# Altium schematic symbol library my_AP_lib_sch.SchLib: 107 symbols
Pins are listed as number, name and electrical type; pins without a type are passive.

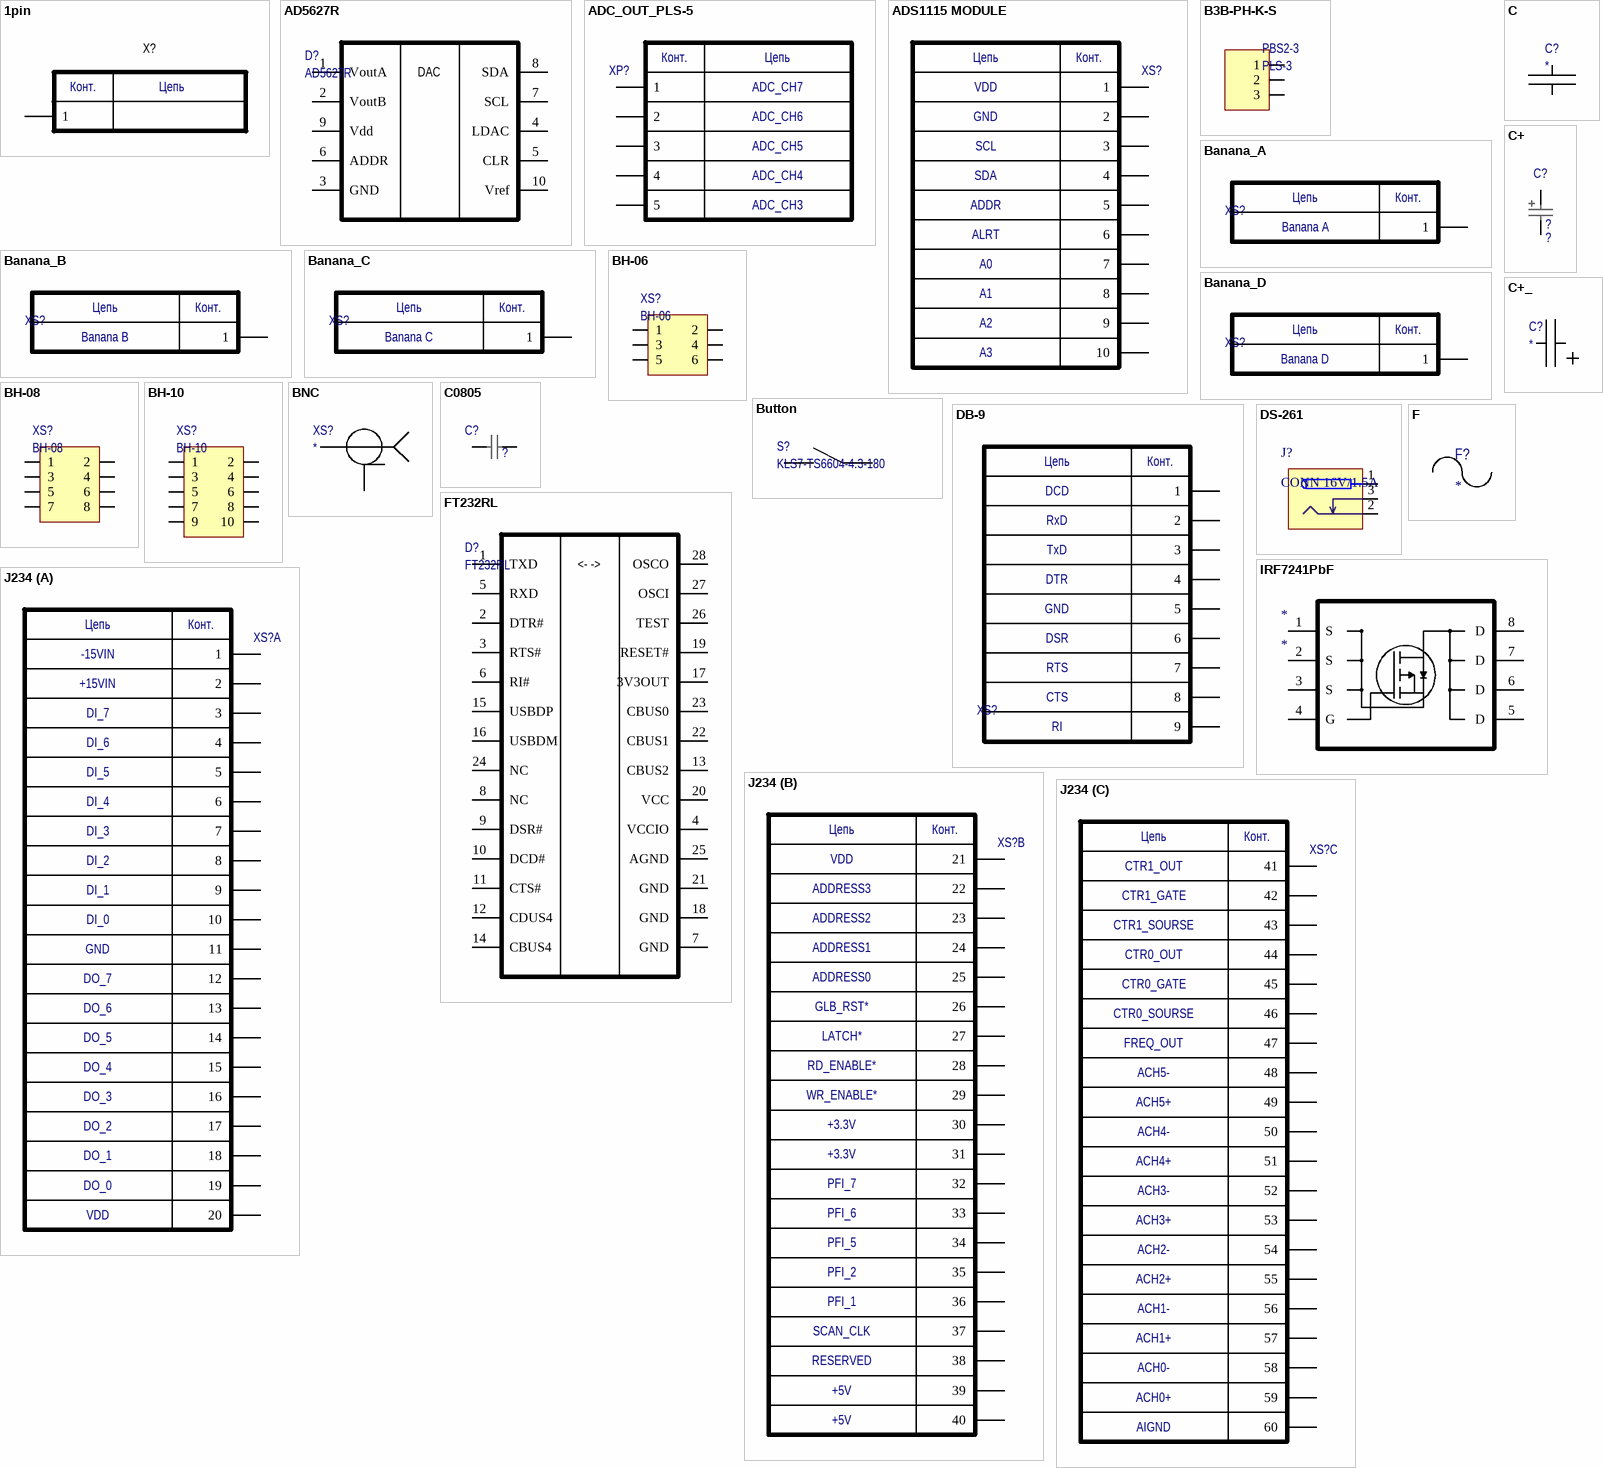
[diagram p0: symbols 1pin to J234]

## 1pin
designator X?  (value not drawn)
Manufacturer: *; PartNumber: *
footprint Test_point
pins: 1
text: Конт.; Цепь

## AD5627R
designator D?
Manufacturer: Analog Devices; PartNumber: AD5627R
footprint MSOP-10
pins: 1 VoutA, 2 VoutB, 3 GND, 4 LDAC, 5 CLR, 6 ADDR, 7 SCL, 8 SDA, 9 Vdd, 10 Vref
text: DAC

## ADC_OUT_PLS-5
designator XP?  (value not drawn)
footprint PLS-5
pins: 1, 2, 3, 4, 5
text: Конт.; Цепь; ADC_CH7; ADC_CH6; ADC_CH5; ADC_CH4; ADC_CH3

## ADS1115 MODULE
designator XS?  (value not drawn)
footprint PBS-10
pins: 1, 2, 3, 4, 5, 6, 7, 8, 9, 10
text: Цепь; Конт.; VDD; GND; SCL; SDA; ADDR; ALRT; A0; A1; A2; A3

## B3B-PH-K-S
designator PBS2-3, comment PLS-3
footprint PBS2-3
pins: 1, 2, 3

## Banana_A
designator XS?, comment 571-0500  (value not drawn)
PartNumber: 571-0500
footprint BANANA (571-0100) (Deltron)
pins: 1
text: Цепь; Конт.; Banana A

## Banana_B
designator XS?, comment 571-0100  (value not drawn)
PartNumber: 571-0100
footprint BANANA (571-0100) (Deltron)
pins: 1
text: Цепь; Конт.; Banana B

## Banana_C
designator XS?, comment 571-0500  (value not drawn)
PartNumber: 571-0500
footprint BANANA (571-0100) (Deltron)
pins: 1
text: Цепь; Конт.; Banana C

## Banana_D
designator XS?, comment 571-0100  (value not drawn)
PartNumber: 571-0100
footprint BANANA (571-0100) (Deltron)
pins: 1
text: Цепь; Конт.; Banana D

## BH-06
designator XS?
footprint BH-06
pins: 1, 2, 3, 4, 5, 6

## BH-08
designator XS?
footprint BH-08
pins: 1, 2, 3, 4, 5, 6, 7, 8

## BH-10
designator XS?
footprint BH-10
pins: 1, 2, 3, 4, 5, 6, 7, 8, 9, 10

## BNC
designator XS?
footprint PCB_BNC
pins: 1 IN, 2 GND

## Button
designator S?, comment KLS7-TS6604-4.3-180
footprint KLS7-TS6604-4.3-180
pins: 1, 2

## C
designator C?
Tolerance: %; Voltage: B; Case: *; Dielectric: *; Mount: *; PartNumber: *; Value: ?
footprint C0402
footprint C0603
footprint C0805 (Chip Capacitor, 2-Leads, Body 2,00x1,25mm, IPC Medium Density)
footprint C1206 (Chip Capacitor, 2-Leads, Body 3,20x1,60mm, IPC Medium Density)
pins: 1, 2

## C0805
designator C?  (value not drawn)
Tolerance: %; Voltage: B; Case: *; Dielectric: *; Mount: *; PartNumber: *; Value: ?
footprint C0402
footprint C0603
footprint C0805 (Chip Capacitor, 2-Leads, Body 2,00x1,25mm, IPC Medium Density)
footprint C1206 (Chip Capacitor, 2-Leads, Body 3,20x1,60mm, IPC Medium Density)
pins: 1, 2

## C+
designator C?  (value not drawn)
Tolerance: %; Case: *; Dielectric: *; Mount: *; PartNumber: *; Voltage: ?; Value: ?
footprint C0402
footprint C0603
footprint C1206 (Chip Capacitor, 2-Leads, Body 3,20x1,60mm, IPC Medium Density)
footprint ECAP_10x17
footprint ECAP_8x12
pins: 1, 2

## C+_
designator C?
Tolerance: %; Voltage: B; Case: *; Dielectric: *; Mount: *; PartNumber: *; Value: ?
footprint Case A
footprint CASE B
footprint CASE C
footprint Case D
footprint C_EL_12.5x20x5
pins: 1, 2

## DB-9
designator XS?  9: RI  8: CTS  7: RTS  6: DSR  5: GND  4: DTR  3: TxD  2: RxD  1: DCD  (hidden comment: *)
pins: 1, 2, 3, 4, 5, 6, 7, 8, 9
text: Цепь; Конт.

## DS-261
designator J?, comment CONN 16V/1.5A
footprint DS-261
pins: 1, 2, 3

## F
designator F?
045303.5MR
footprint FUSC6127X269N
pins: 1, 2

## FT232RL
designator D?
Manufacturer: FTDI Chip; PurtNumber: FT232RL-xxxx; Case: SSOP-28
footprint SSOP-28 (SOP, 28-Leads, Body 10,20x5,30mm, Pitch 0,65mm, IPC Medium Density)
pins: 1 TXD, 2 DTR#, 3 RTS#, 4 VCCIO, 5 RXD, 6 RI#, 7 GND, 8 NC, 9 DSR#, 10 DCD#, 11 CTS#, 12 CDUS4, 13 CBUS2, 14 CBUS4, 15 USBDP, 16 USBDM, 17 3V3OUT, 18 GND, 19 RESET#, 20 VCC, 21 GND, 22 CBUS1, 23 CBUS0, 24 NC, 25 AGND, 26 TEST, 27 OSCI, 28 OSCO
text: <- ->

## IRF7241PbF
designator *
footprint SOIC127P600X175-8N
pins: 1 S, 2 S, 3 S, 4 G, 5 D, 6 D, 7 D, 8 D

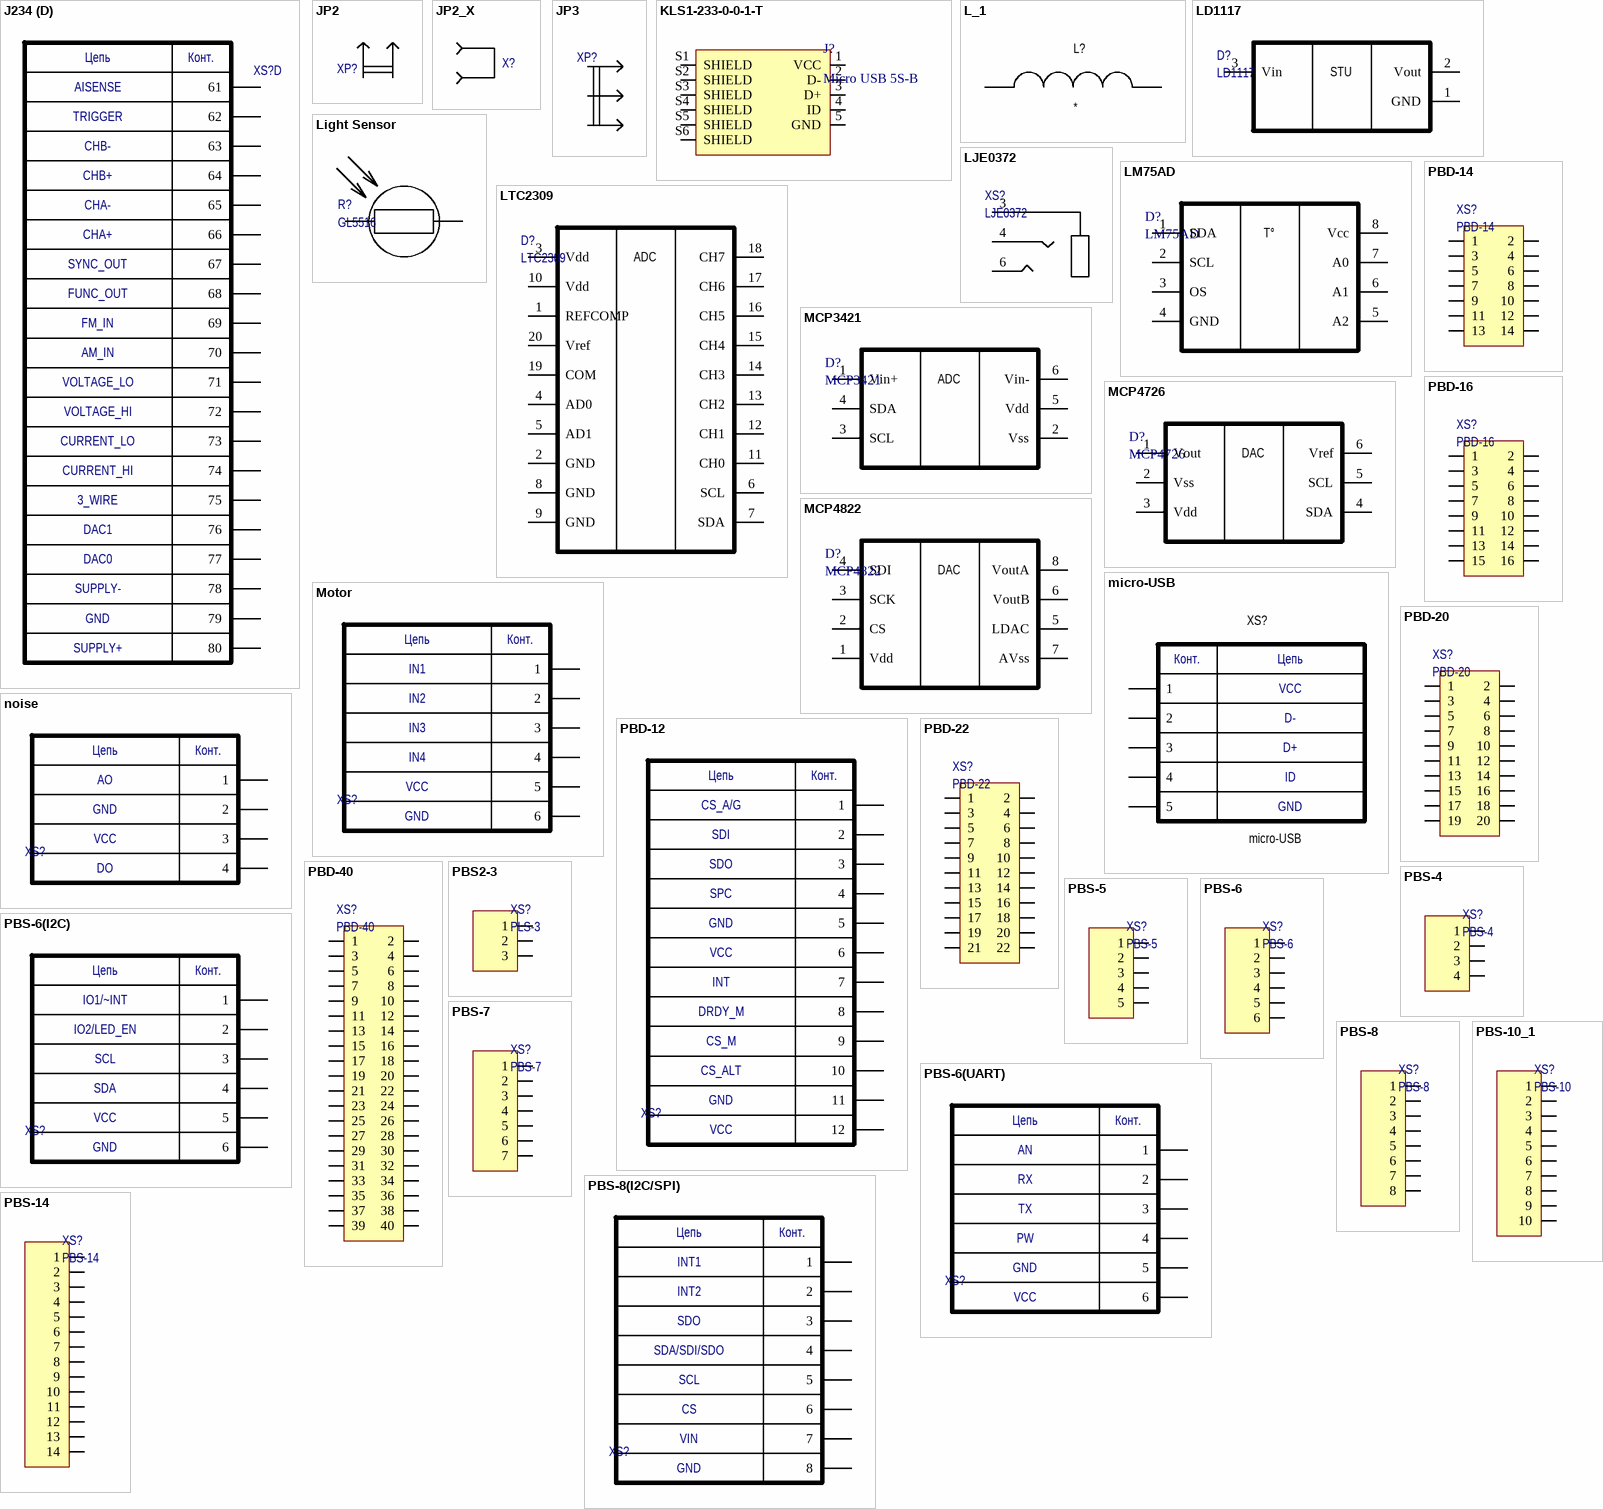
[diagram p1: symbols J234 to PBS-14]

## J234
designator XS?  (value not drawn)
footprint J234
part A pins: 1, 2, 3, 4, 5, 6, 7, 8, 9, 10, 11, 12, 13, 14, 15, 16, 17, 18, 19, 20
part B pins: 21, 22, 23, 24, 25, 26, 27, 28, 29, 30, 31, 32, 33, 34, 35, 36, 37, 38, 39, 40
part C pins: 41, 42, 43, 44, 45, 46, 47, 48, 49, 50, 51, 52, 53, 54, 55, 56, 57, 58, 59, 60
part D pins: 61, 62, 63, 64, 65, 66, 67, 68, 69, 70, 71, 72, 73, 74, 75, 76, 77, 78, 79, 80
part A text: Цепь; Конт.; -15VIN; +15VIN; DI_7; DI_6; DI_5; DI_4; DI_3; DI_2; DI_1; DI_0; GND; DO_7; DO_6; DO_5; DO_4; DO_3; DO_2; DO_1; DO_0; VDD
part B text: Цепь; Конт.; VDD; ADDRESS3; ADDRESS2; ADDRESS1; ADDRESS0; GLB_RST*; LATCH*; RD_ENABLE*; WR_ENABLE*; +3.3V; PFI_7; PFI_6; PFI_5; PFI_2; PFI_1; SCAN_CLK; RESERVED; +5V
part C text: Цепь; Конт.; CTR1_OUT; CTR1_GATE; CTR1_SOURSE; CTR0_OUT; CTR0_GATE; CTR0_SOURSE; FREQ_OUT; ACH5-; ACH5+; ACH4-; ACH4+; ACH3-; ACH3+; ACH2-; ACH2+; ACH1-; ACH1+; ACH0-; ACH0+; AIGND
part D text: Цепь; Конт.; AISENSE; TRIGGER; CHB-; CHB+; CHA-; CHA+; SYNC_OUT; FUNC_OUT; FM_IN; AM_IN; VOLTAGE_LO; VOLTAGE_HI; CURRENT_LO; CURRENT_HI; 3_WIRE; DAC1; DAC0; SUPPLY-; GND; SUPPLY+

## JP2
designator XP?, comment Замыкатель MJ-O-8KLS  (value not drawn)
Company: KLS electronic co ltd; PartNumber: MJ-O-8KLS
footprint PLS-2
pins: 1, 2

## JP2_X
designator X?  (value not drawn)

## JP3
designator XP?, comment Замыкатель MJ-O-8KLS  (value not drawn)
Company: KLS electronic co ltd; PartNumber: MJ-O-8KLS
footprint PLS-3
pins: 1, 2, 3

## KLS1-233-0-0-1-T
designator J?, comment Micro USB 5S-B
footprint KLS1-233-0-0-1-T (Micro USB 5S-B)
pins: 1 VCC, 2 D-, 3 D+, 4 ID, 5 GND, S1 SHIELD, S2 SHIELD, S3 SHIELD, S4 SHIELD, S5 SHIELD, S6 SHIELD

## L_1
designator L?
footprint INDC3225X170N (Chip Inductor, 2-Leads, Body 3.2x2.5mm, IPC Medium Density)
footprint IND_6.5x6.5_VISHAY
footprint Ind_6.5x6.5
footprint INDC_0603 (Chip Inductor, 2-Leads, Body 1,60x1,00mm, IPC Medium Density)
pins: 1, 2

## LD1117
designator D?
Manufacturer: ST Microelectronics; PartNumber: LD1117S33CTR; Case: SOT-223
footprint SOT-223
pins: 1 GND, 2 Vout, 3 Vin
text: STU

## Light Sensor
designator R?, comment GL5516
PartNumber: GL5516
footprint GL5516
pins: 1, 2

## LJE0372
designator XS?
footprint JP035-Rt3B3AB
pins: 3, 4, 6

## LM75AD
designator D?
Manufacturer: NXP; Case: SO-8; PartNumber: LM75AD
footprint SO-8 (SOP, 8-Leads, Body 4,90x3,90mm, Pitch 1,27mm, IPC Medium Density)
pins: 1 SDA, 2 SCL, 3 OS, 4 GND, 5 A2, 6 A1, 7 A0, 8 Vcc
text: T°

## LTC2309
designator D?
Manufacturer: Linear Technology; PartNumber: LTC2309
footprint SOP127P600-8N
pins: 1 REFCOMP, 2 GND, 3 Vdd, 4 AD0, 5 AD1, 6 SCL, 7 SDA, 8 GND, 9 GND, 10 Vdd, 11 CH0, 12 CH1, 13 CH2, 14 CH3, 15 CH4, 16 CH5, 17 CH6, 18 CH7, 19 COM, 20 Vref
text: ADC

## MCP3421
designator D?
Manufacturer: Microchip; PartNumber: MCP3421A0T-E/CH; Case: SOT-23-6
pins: 1 Vin+, 2 Vss, 3 SCL, 4 SDA, 5 Vdd, 6 Vin-
text: ADC

## MCP4726
designator D?
Manufacturer: Micrichip; PartNumber: MCP3421A0T-E/CH; Case: SOT-23-6
pins: 1 Vout, 2 Vss, 3 Vdd, 4 SDA, 5 SCL, 6 Vref
text: DAC

## MCP4822
designator D?
Manufacturer: Micrichip; PartNumber: MCP4822-E/SN; Case: SOIC-8
footprint SOIC8
pins: 1 Vdd, 2 CS, 3 SCK, 4 SDI, 5 LDAC, 6 VoutB, 7 AVss, 8 VoutA
text: DAC

## micro-USB
designator XS?
footprint USB-micro
footprint USB_MICRO_1981568-1 (1981568-1)
pins: 1, 2, 3, 4, 5
text: Конт.; Цепь; VCC; D-; D+; ID; GND

## Motor
designator XS?, comment ULN2003  (value not drawn)
footprint PBS-6 (DS1023-30-1x6)
pins: 1, 2, 3, 4, 5, 6
text: Цепь; Конт.; IN1; IN2; IN3; IN4; VCC; GND

## noise
designator XS?, comment KY-038  (value not drawn)
footprint PBS-4
pins: 1, 2, 3, 4
text: Цепь; Конт.; AO; GND; VCC; DO

## PBD-12
designator XS?  (value not drawn)
footprint PBD-12 - PMOD (DS1023-30-1x6)
pins: 1, 2, 3, 4, 5, 6, 7, 8, 9, 10, 11, 12
text: Цепь; Конт.; CS_A/G; SDI; SDO; SPC; GND; VCC; INT; DRDY_M; CS_M; CS_ALT

## PBD-14
designator XS?
footprint PBD-14
pins: 1, 2, 3, 4, 5, 6, 7, 8, 9, 10, 11, 12, 13, 14

## PBD-16
designator XS?
footprint PBD-16
pins: 1, 2, 3, 4, 5, 6, 7, 8, 9, 10, 11, 12, 13, 14, 15, 16

## PBD-20
designator XS?
footprint PBD-20
pins: 1, 2, 3, 4, 5, 6, 7, 8, 9, 10, 11, 12, 13, 14, 15, 16, 17, 18, 19, 20

## PBD-22
designator XS?
footprint PBD-22
pins: 1, 2, 3, 4, 5, 6, 7, 8, 9, 10, 11, 12, 13, 14, 15, 16, 17, 18, 19, 20, 21, 22

## PBD-40
designator XS?
footprint PBD-40
pins: 1, 2, 3, 4, 5, 6, 7, 8, 9, 10, 11, 12, 13, 14, 15, 16, 17, 18, 19, 20, 21, 22, 23, 24, 25, 26, 27, 28, 29, 30, 31, 32, 33, 34, 35, 36, 37, 38, 39, 40

## PBS2-3
designator XS?, comment PLS-3
footprint PBS2-3
pins: 1, 2, 3

## PBS-4
designator XS?
footprint PBS-4
pins: 1, 2, 3, 4

## PBS-5
designator XS?
footprint PBS-5
pins: 1, 2, 3, 4, 5

## PBS-6
designator XS?
footprint PBS-6 (DS1023-30-1x6)
pins: 1, 2, 3, 4, 5, 6

## PBS-6(I2C)
designator XS?  (value not drawn)
footprint PBS-6 (DS1023-30-1x6)
pins: 1, 2, 3, 4, 5, 6
text: Цепь; Конт.; IO1/~INT; IO2/LED_EN; SCL; SDA; VCC; GND

## PBS-6(UART)
designator XS?  6: AN  5: RX  4: TX  3: PW  2: GND  1: VCC  (hidden comment: *)
footprint PBS-6 (DS1023-30-1x6)
pins: 1, 2, 3, 4, 5, 6
text: Цепь; Конт.

## PBS-7
designator XS?
footprint PBS-7 (DS1023-30-1x7)
pins: 1, 2, 3, 4, 5, 6, 7

## PBS-8
designator XS?
footprint PBS-8 (DS1023-30-1x6)
pins: 1, 2, 3, 4, 5, 6, 7, 8

## PBS-8(I2C/SPI)
designator XS?  (value not drawn)
footprint PBS-8 (DS1023-30-1x6)
pins: 1, 2, 3, 4, 5, 6, 7, 8
text: Цепь; Конт.; INT1; INT2; SDO; SDA/SDI/SDO; SCL; CS; VIN; GND

## PBS-10_1
designator XS?, comment PBS-10
footprint PBS-10
pins: 1, 2, 3, 4, 5, 6, 7, 8, 9, 10

## PBS-14
designator XS?
footprint PBS-14
pins: 1, 2, 3, 4, 5, 6, 7, 8, 9, 10, 11, 12, 13, 14

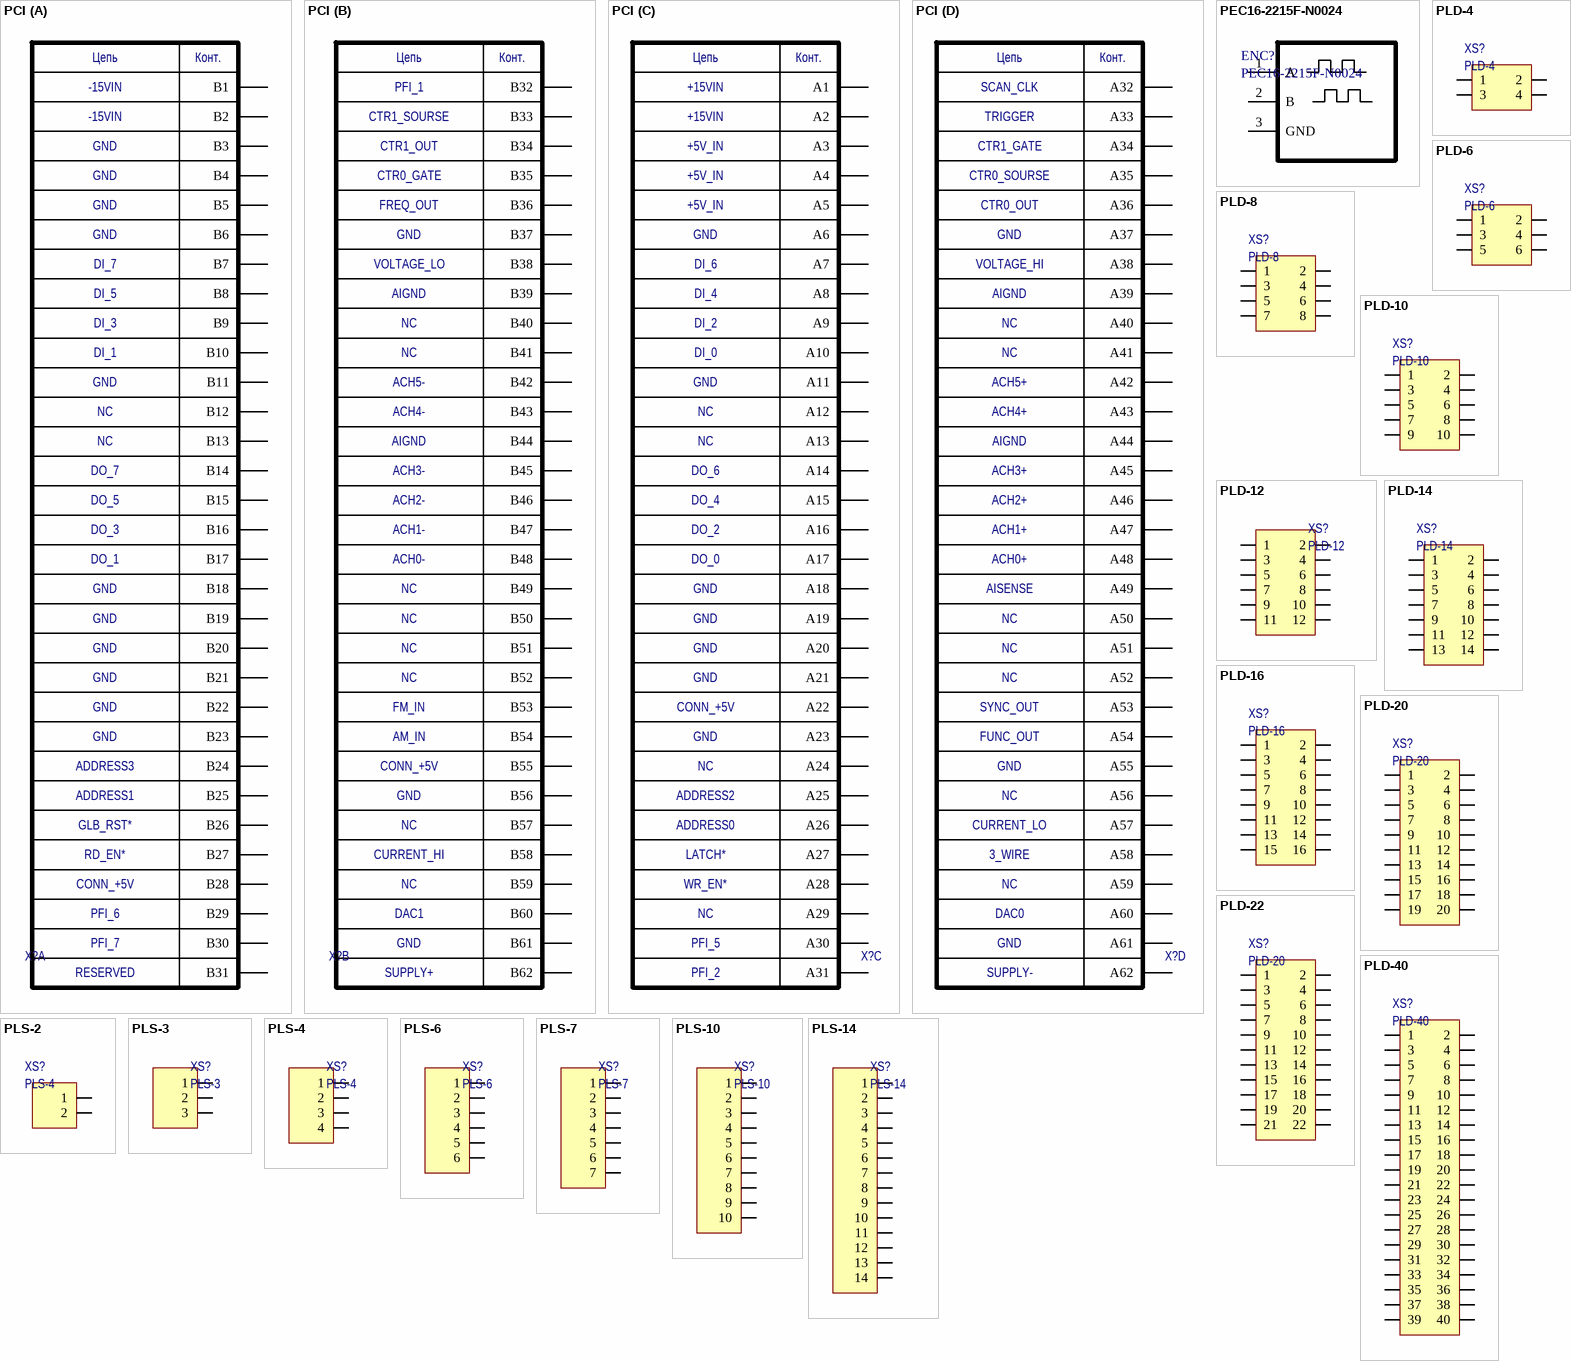
[diagram p2: symbols PCI to PLS-14]

## PCI
designator X?  (value not drawn)
footprint PCI
part A pins: B1, B2, B3, B4, B5, B6, B7, B8, B9, B10, B11, B12, B13, B14, B15, B16, B17, B18, B19, B20, B21, B22, B23, B24, B25, B26, B27, B28, B29, B30, B31
part B pins: B32, B33, B34, B35, B36, B37, B38, B39, B40, B41, B42, B43, B44, B45, B46, B47, B48, B49, B50, B51, B52, B53, B54, B55, B56, B57, B58, B59, B60, B61, B62
part C pins: A1, A2, A3, A4, A5, A6, A7, A8, A9, A10, A11, A12, A13, A14, A15, A16, A17, A18, A19, A20, A21, A22, A23, A24, A25, A26, A27, A28, A29, A30, A31
part D pins: A32, A33, A34, A35, A36, A37, A38, A39, A40, A41, A42, A43, A44, A45, A46, A47, A48, A49, A50, A51, A52, A53, A54, A55, A56, A57, A58, A59, A60, A61, A62
part A text: Цепь; Конт.; -15VIN; GND; DI_7; DI_5; DI_3; DI_1; NC; DO_7; DO_5; DO_3; DO_1; ADDRESS3; ADDRESS1; GLB_RST*; RD_EN*; CONN_+5V; PFI_6; PFI_7; RESERVED
part B text: Цепь; Конт.; PFI_1; CTR1_SOURSE; CTR1_OUT; CTR0_GATE; FREQ_OUT; GND; VOLTAGE_LO; AIGND; NC; ACH5-; ACH4-; ACH3-; ACH2-; ACH1-; ACH0-; FM_IN; AM_IN; CONN_+5V; CURRENT_HI; DAC1; SUPPLY+
part C text: Цепь; Конт.; +15VIN; +5V_IN; GND; DI_6; DI_4; DI_2; DI_0; NC; DO_6; DO_4; DO_2; DO_0; CONN_+5V; ADDRESS2; ADDRESS0; LATCH*; WR_EN*; PFI_5; PFI_2
part D text: Цепь; Конт.; SCAN_CLK; TRIGGER; CTR1_GATE; CTR0_SOURSE; CTR0_OUT; GND; VOLTAGE_HI; AIGND; NC; ACH5+; ACH4+; ACH3+; ACH2+; ACH1+; ACH0+; AISENSE; SYNC_OUT; FUNC_OUT; CURRENT_LO; 3_WIRE; DAC0; SUPPLY-

## PEC16-2215F-N0024
designator ENC?
footprint PEC16-2215F-N0024
pins: 1 A, 2 B, 3 GND

## PLD-4
designator XS?
footprint PLD-4
pins: 1, 2, 3, 4

## PLD-6
designator XS?
footprint PLD-6
pins: 1, 2, 3, 4, 5, 6

## PLD-8
designator XS?
footprint PLD-6
footprint PLD-8
pins: 1, 2, 3, 4, 5, 6, 7, 8

## PLD-10
designator XS?
footprint PLD-6
footprint PLD-10
pins: 1, 2, 3, 4, 5, 6, 7, 8, 9, 10

## PLD-12
designator XS?
footprint PLD-6
footprint PLD-12
pins: 1, 2, 3, 4, 5, 6, 7, 8, 9, 10, 11, 12

## PLD-14
designator XS?
footprint PBD-14
pins: 1, 2, 3, 4, 5, 6, 7, 8, 9, 10, 11, 12, 13, 14

## PLD-16
designator XS?
footprint PLD-16
footprint PLD-16_reverse
pins: 1, 2, 3, 4, 5, 6, 7, 8, 9, 10, 11, 12, 13, 14, 15, 16

## PLD-20
designator XS?
footprint PLD-20
footprint PLD-20_reverse
pins: 1, 2, 3, 4, 5, 6, 7, 8, 9, 10, 11, 12, 13, 14, 15, 16, 17, 18, 19, 20

## PLD-22
designator XS?, comment PLD-20
footprint PLD-22
pins: 1, 2, 3, 4, 5, 6, 7, 8, 9, 10, 11, 12, 13, 14, 15, 16, 17, 18, 19, 20, 21, 22

## PLD-40
designator XS?
footprint PLD-40
footprint PLD-40_reverse
pins: 1, 2, 3, 4, 5, 6, 7, 8, 9, 10, 11, 12, 13, 14, 15, 16, 17, 18, 19, 20, 21, 22, 23, 24, 25, 26, 27, 28, 29, 30, 31, 32, 33, 34, 35, 36, 37, 38, 39, 40

## PLS-2
designator XS?, comment PLS-4
footprint PLS-2
pins: 1, 2

## PLS-3
designator XS?
footprint PLS-3
pins: 1, 2, 3

## PLS-4
designator XS?
footprint PLS-4
pins: 1, 2, 3, 4

## PLS-6
designator XS?
footprint PLS-6
pins: 1, 2, 3, 4, 5, 6

## PLS-7
designator XS?
footprint PLS-7
pins: 1, 2, 3, 4, 5, 6, 7

## PLS-10
designator XS?
footprint PLS-10
pins: 1, 2, 3, 4, 5, 6, 7, 8, 9, 10

## PLS-14
designator XS?
footprint PLS-14
pins: 1, 2, 3, 4, 5, 6, 7, 8, 9, 10, 11, 12, 13, 14

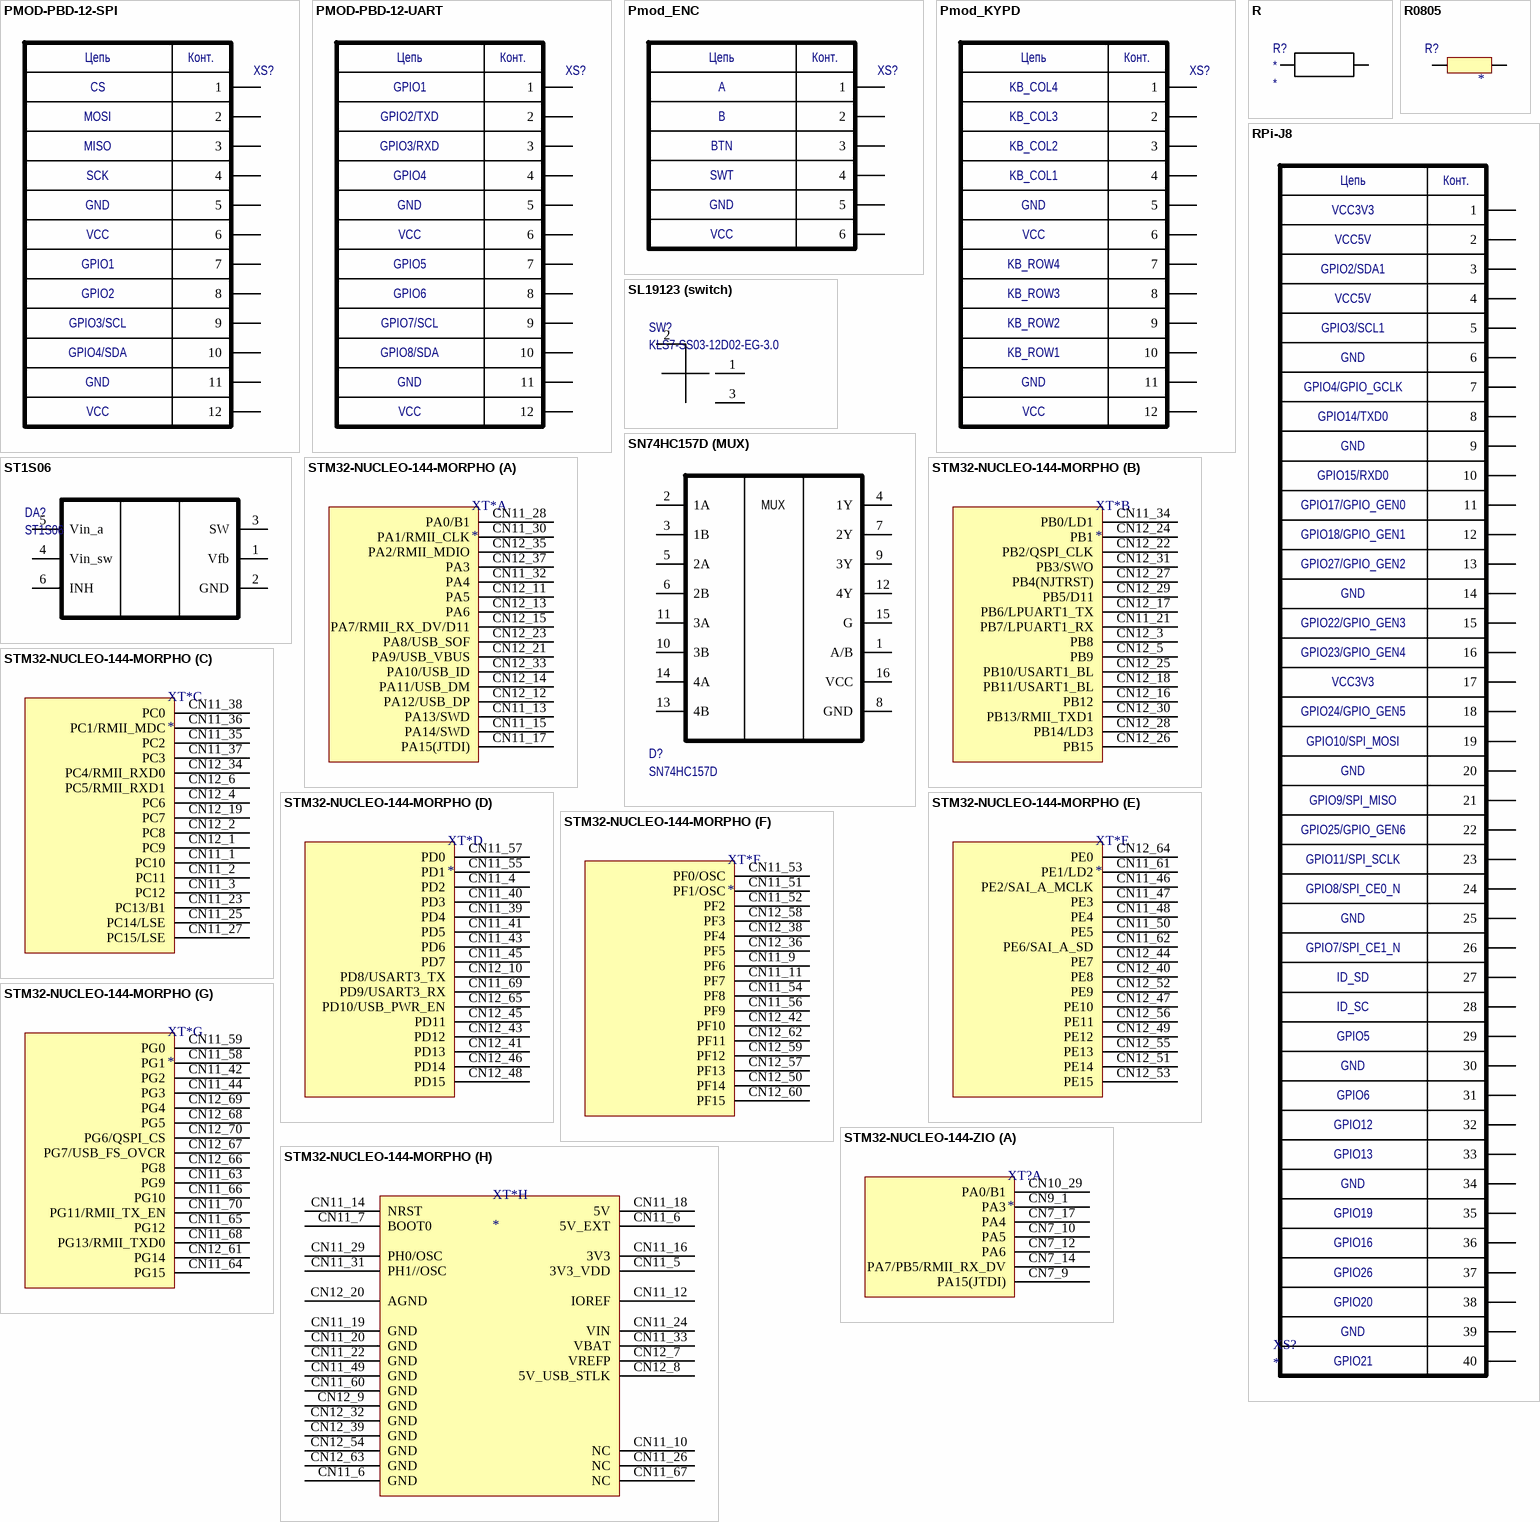
[diagram p3: symbols PMOD-PBD-12-SPI to STM32-NUCLEO-144-ZIO]

## PMOD-PBD-12-SPI
designator XS?  (value not drawn)
footprint PBD-12 - PMOD (DS1023-30-1x6)
pins: 1, 2, 3, 4, 5, 6, 7, 8, 9, 10, 11, 12
text: Цепь; Конт.; CS; MOSI; MISO; SCK; GND; VCC; GPIO1; GPIO2; GPIO3/SCL; GPIO4/SDA

## PMOD-PBD-12-UART
designator XS?  (value not drawn)
footprint PBD-12 - PMOD (DS1023-30-1x6)
pins: 1, 2, 3, 4, 5, 6, 7, 8, 9, 10, 11, 12
text: Цепь; Конт.; GPIO1; GPIO2/TXD; GPIO3/RXD; GPIO4; GND; VCC; GPIO5; GPIO6; GPIO7/SCL; GPIO8/SDA

## Pmod_ENC
designator XS?  (value not drawn)
footprint PBS-6 (DS1023-30-1x6)
pins: 1, 2, 3, 4, 5, 6
text: Цепь; Конт.; A; B; BTN; SWT; GND; VCC

## Pmod_KYPD
designator XS?  (value not drawn)
footprint PBD-12 (DS1023-30-1x6)
pins: 1, 2, 3, 4, 5, 6, 7, 8, 9, 10, 11, 12
text: Цепь; Конт.; KB_COL4; KB_COL3; KB_COL2; KB_COL1; GND; VCC; KB_ROW4; KB_ROW3; KB_ROW2; KB_ROW1

## R
designator R?
Case: *; Mount: *; PartNumber: *; Power: *; Tolerance: *; Value: *
footprint R0603
footprint R0805
footprint R1206
pins: 1, 2

## R0805
designator R?
Case: *; Mount: *; PartNumber: *; Power: *; Tolerance: *; Value: *
footprint R0603
footprint R0805
footprint R1206
pins: 1, 2

## RPi-J8
designator XS?  40: GPIO21  39: GND  38: GPIO20  37: GPIO26  36: GPIO16  35: GPIO19  33: GPIO13  32: GPIO12  31: GPIO6  29: GPIO5  28: ID_SC  27: ID_SD  26: GPIO7/SPI_CE1_N  24: GPIO8/SPI_CE0_N  23: GPIO11/SPI_SCLK  22: GPIO25/GPIO_GEN6  21: GPIO9/SPI_MISO  19: GPIO10/SPI_MOSI  18: GPIO24/GPIO_GEN5  17: VCC3V3  16: GPIO23/GPIO_GEN4  15: GPIO22/GPIO_GEN3  13: GPIO27/GPIO_GEN2  8: GPIO14/TXD0  7: GPIO4/GPIO_GCLK  12: GPIO18/GPIO_GEN1  5: GPIO3/SCL1  4: VCC5V  3: GPIO2/SDA1  11: GPIO17/GPIO_GEN0  10: GPIO15/RXD0
34: GND; 30: GND; 25: GND; 20: GND; 14: GND; 9: GND; 2: VCC5V; 6: GND; 1: VCC3V3
footprint RaPi_PBD-40
footprint RaPi
footprint RaPi_PLD-40
pins: 1, 2, 3, 4, 5, 6, 7, 8, 9, 10, 11, 12, 13, 14, 15, 16, 17, 18, 19, 20, 21, 22, 23, 24, 25, 26, 27, 28, 29, 30, 31, 32, 33, 34, 35, 36, 37, 38, 39, 40
text: Цепь; Конт.

## SL19123 (switch)
designator SW?, comment KLS7-SS03-12D02-EG-3.0
footprint SL19123 (swtich)
pins: 1, 2, 3

## SN74HC157D (MUX)
designator D?, comment SN74HC157D
Manufacturer: Texas Instruments; Case: SOIC-16; PartNumber: SN74HC157D
footprint SOIC-16
pins: 1 A/B, 2 1A, 3 1B, 4 1Y, 5 2A, 6 2B, 7 2Y, 8 GND, 9 3Y, 10 3B, 11 3A, 12 4Y, 13 4B, 14 4A, 15 G, 16 VCC
text: MUX

## ST1S06
designator DA?
pins: 1 Vfb, 2 GND, 3 SW, 4 Vin_sw, 5 Vin_a, 6 INH

## STM32-NUCLEO-144-MORPHO
designator XT*
footprint STM32-NUCLEO-144-MORPHO
part A pins: CN11_13 PA13/SWD, CN11_15 PA14/SWD, CN11_17 PA15(JTDI), CN11_28 PA0/B1, CN11_30 PA1/RMII_CLK, CN11_32 PA4, CN12_11 PA5, CN12_12 PA12/USB_DP, CN12_13 PA6, CN12_14 PA11/USB_DM, CN12_15 PA7/RMII_RX_DV/D11, CN12_21 PA9/USB_VBUS, CN12_23 PA8/USB_SOF, CN12_33 PA10/USB_ID, CN12_35 PA2/RMII_MDIO, CN12_37 PA3
part B pins: CN11_21 PB7/LPUART1_RX, CN11_34 PB0/LD1, CN12_3 PB8, CN12_5 PB9, CN12_16 PB12, CN12_17 PB6/LPUART1_TX, CN12_18 PB11/USART1_BL, CN12_22 PB2/QSPI_CLK, CN12_24 PB1, CN12_25 PB10/USART1_BL, CN12_26 PB15, CN12_27 PB4(NJTRST), CN12_28 PB14/LD3, CN12_29 PB5/D11, CN12_30 PB13/RMII_TXD1, CN12_31 PB3/SWO
part C pins: CN11_1 PC10, CN11_2 PC11, CN11_3 PC12, CN11_23 PC13/B1, CN11_25 PC14/LSE, CN11_27 PC15/LSE, CN11_35 PC2, CN11_36 PC1/RMII_MDC, CN11_37 PC3, CN11_38 PC0, CN12_1 PC9, CN12_2 PC8, CN12_4 PC6, CN12_6 PC5/RMII_RXD1, CN12_19 PC7, CN12_34 PC4/RMII_RXD0
part D pins: CN11_4 PD2, CN11_39 PD4, CN11_40 PD3, CN11_41 PD5, CN11_43 PD6, CN11_45 PD7, CN11_55 PD1, CN11_57 PD0, CN11_69 PD9/USART3_RX, CN12_10 PD8/USART3_TX, CN12_41 PD13, CN12_43 PD12, CN12_45 PD11, CN12_46 PD14, CN12_48 PD15, CN12_65 PD10/USB_PWR_EN
part E pins: CN11_46 PE2/SAI_A_MCLK, CN11_47 PE3, CN11_48 PE4, CN11_50 PE5, CN11_61 PE1/LD2, CN11_62 PE6/SAI_A_SD, CN12_40 PE8, CN12_44 PE7, CN12_47 PE10, CN12_49 PE12, CN12_51 PE14, CN12_52 PE9, CN12_53 PE15, CN12_55 PE13, CN12_56 PE11, CN12_64 PE0
part F pins: CN11_9 PF6, CN11_11 PF7, CN11_51 PF1/OSC, CN11_52 PF2, CN11_53 PF0/OSC, CN11_54 PF8, CN11_56 PF9, CN12_36 PF5, CN12_38 PF4, CN12_42 PF10, CN12_50 PF14, CN12_57 PF13, CN12_58 PF3, CN12_59 PF12, CN12_60 PF15, CN12_62 PF11
part G pins: CN11_42 PG2, CN11_44 PG3, CN11_58 PG1, CN11_59 PG0, CN11_63 PG9, CN11_64 PG15, CN11_65 PG12, CN11_66 PG10, CN11_68 PG13/RMII_TXD0, CN11_70 PG11/RMII_TX_EN, CN12_61 PG14, CN12_66 PG8, CN12_67 PG7/USB_FS_OVCR, CN12_68 PG5, CN12_69 PG4, CN12_70 PG6/QSPI_CS
part H pins: CN11_5 3V3_VDD, CN11_6 5V_EXT, CN11_6 GND, CN11_7 BOOT0, CN11_10 NC, CN11_12 IOREF, CN11_14 NRST, CN11_16 3V3, CN11_18 5V, CN11_19 GND, CN11_20 GND, CN11_22 GND, CN11_24 VIN, CN11_26 NC, CN11_29 PH0/OSC, CN11_31 PH1//OSC, CN11_33 VBAT, CN11_49 GND, CN11_60 GND, CN11_67 NC, CN12_7 VREFP, CN12_8 5V_USB_STLK, CN12_9 GND, CN12_20 AGND, CN12_32 GND, CN12_39 GND, CN12_54 GND, CN12_63 GND

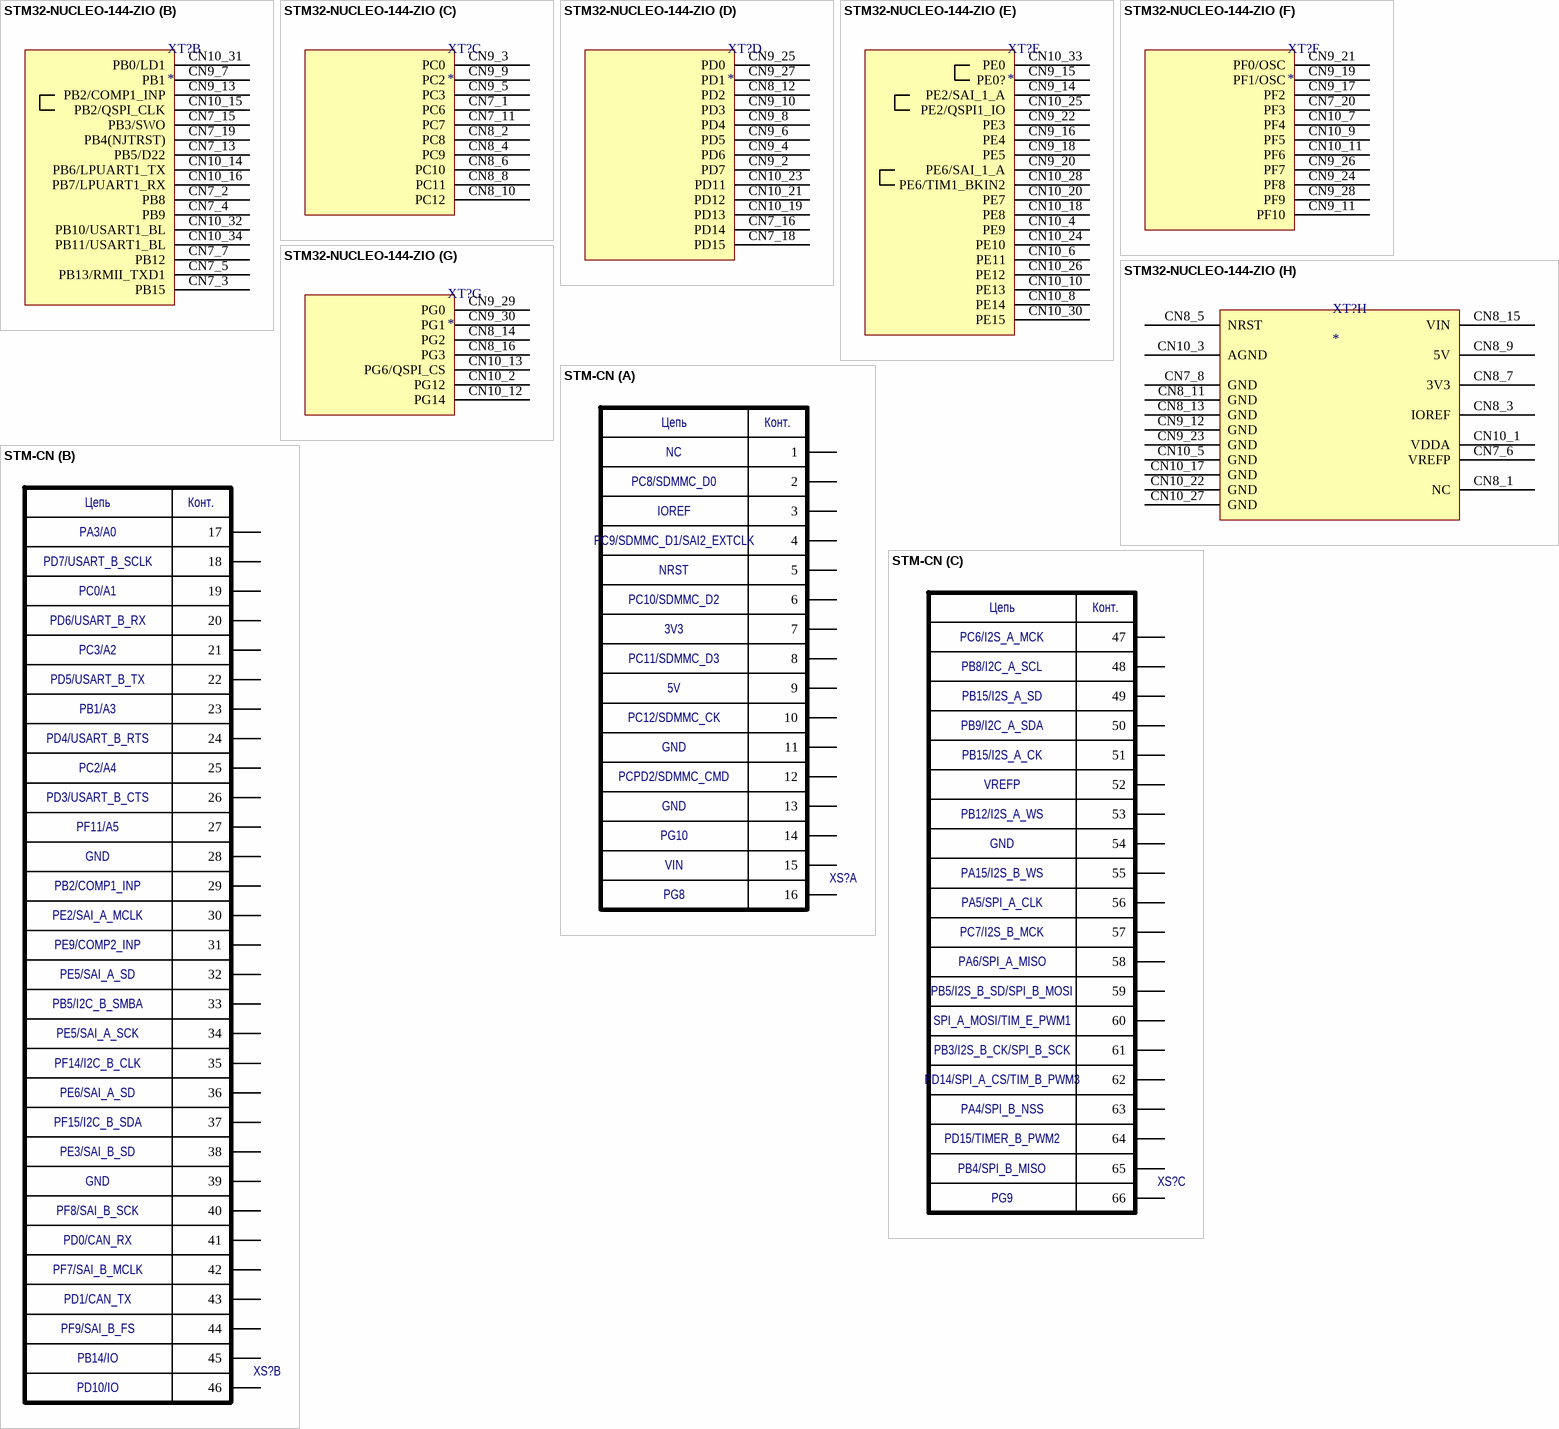
[diagram p4: symbols STM32-NUCLEO-144-ZIO to STM-CN]

## STM32-NUCLEO-144-ZIO
designator XT?
footprint STM32-NUCLEO-144-ZIO
part A pins: CN7_9 PA15(JTDI), CN7_10 PA5, CN7_12 PA6, CN7_14 PA7/PB5/RMII_RX_DV, CN7_17 PA4, CN9_1 PA3, CN10_29 PA0/B1
part B pins: CN7_2 PB8, CN7_3 PB15, CN7_4 PB9, CN7_5 PB13/RMII_TXD1, CN7_7 PB12, CN7_13 PB5/D22, CN7_15 PB3/SWO, CN7_19 PB4(NJTRST), CN9_7 PB1, CN9_13 PB2/COMP1_INP, CN10_14 PB6/LPUART1_TX, CN10_15 PB2/QSPI_CLK, CN10_16 PB7/LPUART1_RX, CN10_31 PB0/LD1, CN10_32 PB10/USART1_BL, CN10_34 PB11/USART1_BL
part C pins: CN7_1 PC6, CN7_11 PC7, CN8_2 PC8, CN8_4 PC9, CN8_6 PC10, CN8_8 PC11, CN8_10 PC12, CN9_3 PC0, CN9_5 PC3, CN9_9 PC2
part D pins: CN7_16 PD14, CN7_18 PD15, CN8_12 PD2, CN9_2 PD7, CN9_4 PD6, CN9_6 PD5, CN9_8 PD4, CN9_10 PD3, CN9_25 PD0, CN9_27 PD1, CN10_19 PD13, CN10_21 PD12, CN10_23 PD11
part E pins: CN9_14 PE2/SAI_1_A, CN9_15 PE0?, CN9_16 PE4, CN9_18 PE5, CN9_20 PE6/SAI_1_A, CN9_22 PE3, CN10_4 PE9, CN10_6 PE11, CN10_8 PE14, CN10_10 PE13, CN10_18 PE8, CN10_20 PE7, CN10_24 PE10, CN10_25 PE2/QSPI1_IO, CN10_26 PE12, CN10_28 PE6/TIM1_BKIN2, CN10_30 PE15, CN10_33 PE0
part F pins: CN7_20 PF3, CN9_11 PF10, CN9_17 PF2, CN9_19 PF1/OSC, CN9_21 PF0/OSC, CN9_24 PF8, CN9_26 PF7, CN9_28 PF9, CN10_7 PF4, CN10_9 PF5, CN10_11 PF6
part G pins: CN8_14 PG2, CN8_16 PG3, CN9_29 PG0, CN9_30 PG1, CN10_2 PG12, CN10_12 PG14, CN10_13 PG6/QSPI_CS
part H pins: CN7_6 VREFP, CN7_8 GND, CN8_1 NC, CN8_3 IOREF, CN8_5 NRST, CN8_7 3V3, CN8_9 5V, CN8_11 GND, CN8_13 GND, CN8_15 VIN, CN9_12 GND, CN9_23 GND, CN10_1 VDDA, CN10_3 AGND, CN10_5 GND, CN10_17 GND, CN10_22 GND, CN10_27 GND

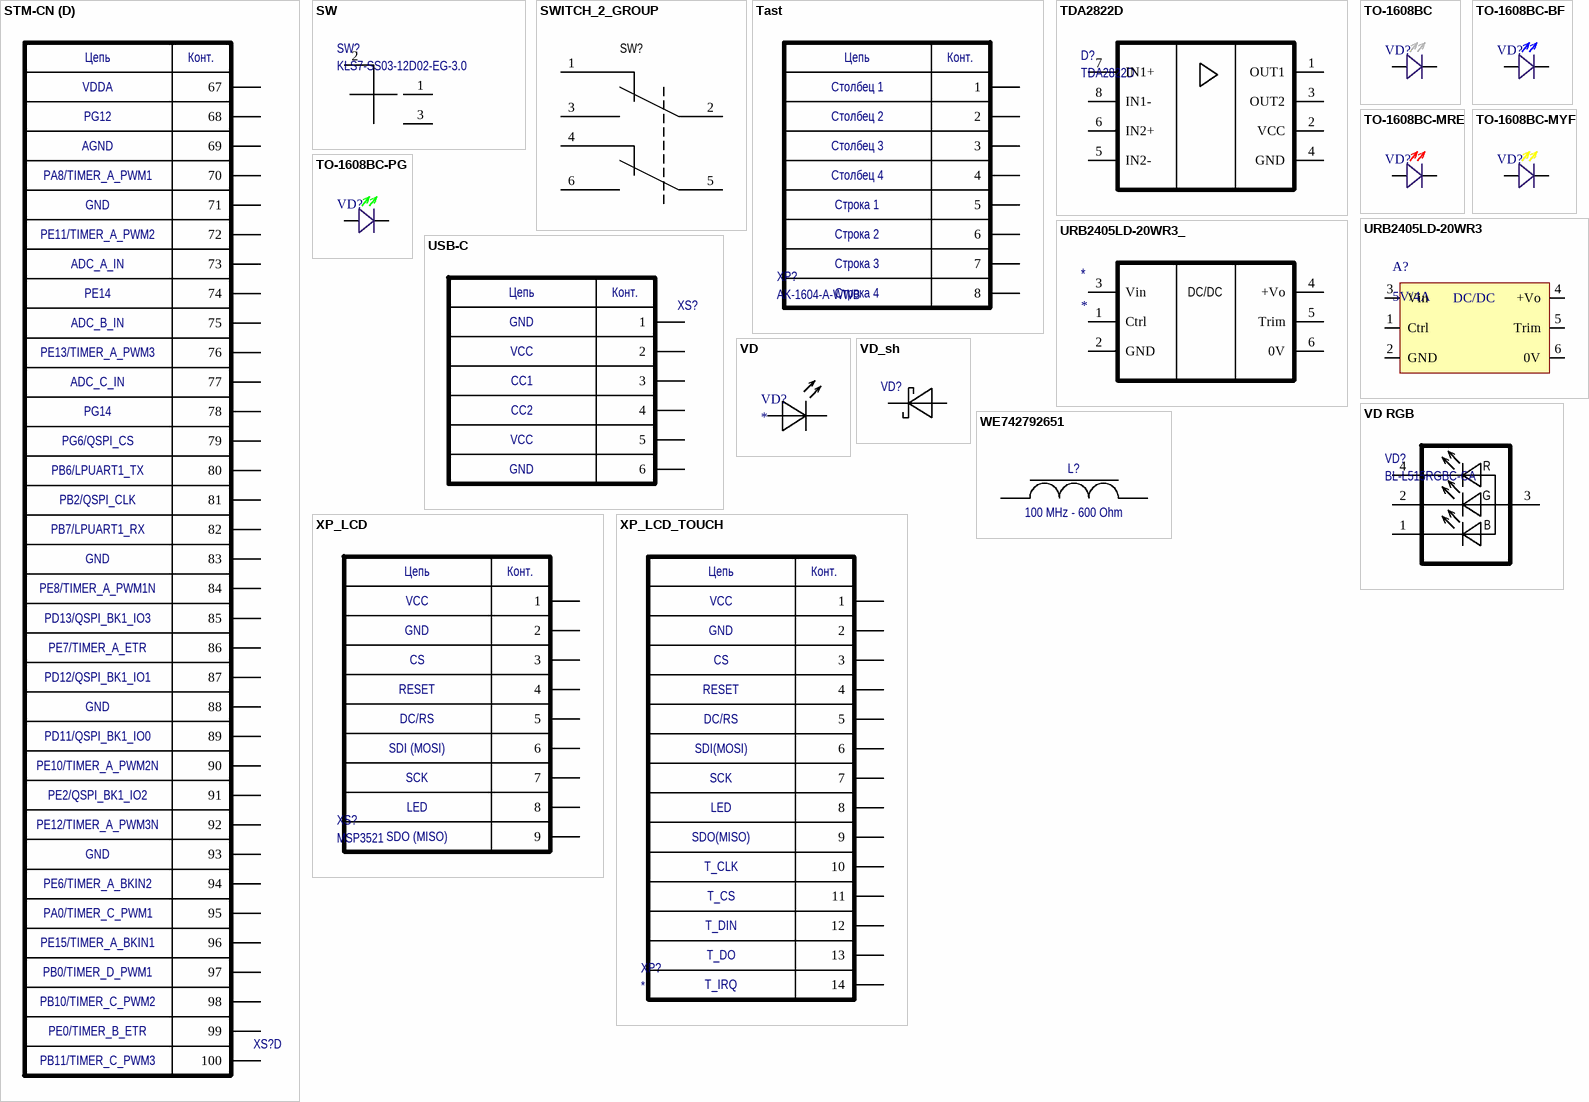
[diagram p5: symbols STM-CN to XP_LCD_TOUCH]

## STM-CN
designator XS?  (value not drawn)
footprint STM32
part A pins: 1, 2, 3, 4, 5, 6, 7, 8, 9, 10, 11, 12, 13, 14, 15, 16
part B pins: 17, 18, 19, 20, 21, 22, 23, 24, 25, 26, 27, 28, 29, 30, 31, 32, 33, 34, 35, 36, 37, 38, 39, 40, 41, 42, 43, 44, 45, 46
part C pins: 47, 48, 49, 50, 51, 52, 53, 54, 55, 56, 57, 58, 59, 60, 61, 62, 63, 64, 65, 66
part D pins: 67, 68, 69, 70, 71, 72, 73, 74, 75, 76, 77, 78, 79, 80, 81, 82, 83, 84, 85, 86, 87, 88, 89, 90, 91, 92, 93, 94, 95, 96, 97, 98, 99, 100
part A text: Цепь; Конт.; NC; PC8/SDMMC_D0; IOREF; PC9/SDMMC_D1/SAI2_EXTCLK; NRST; PC10/SDMMC_D2; 3V3; PC11/SDMMC_D3; 5V; PC12/SDMMC_CK; GND; PCPD2/SDMMC_CMD; PG10; VIN; PG8
part B text: Цепь; Конт.; PA3/A0; PD7/USART_B_SCLK; PC0/A1; PD6/USART_B_RX; PC3/A2; PD5/USART_B_TX; PB1/A3; PD4/USART_B_RTS; PC2/A4; PD3/USART_B_CTS; PF11/A5; GND; PB2/COMP1_INP; PE2/SAI_A_MCLK; PE9/COMP2_INP; PE5/SAI_A_SD; PB5/I2C_B_SMBA; PE5/SAI_A_SCK; PF14/I2C_B_CLK; PE6/SAI_A_SD; PF15/I2C_B_SDA; PE3/SAI_B_SD; PF8/SAI_B_SCK; PD0/CAN_RX; PF7/SAI_B_MCLK; PD1/CAN_TX; PF9/SAI_B_FS; PB14/IO; PD10/IO
part C text: Цепь; Конт.; PC6/I2S_A_MCK; PB8/I2C_A_SCL; PB15/I2S_A_SD; PB9/I2C_A_SDA; PB15/I2S_A_CK; VREFP; PB12/I2S_A_WS; GND; PA15/I2S_B_WS; PA5/SPI_A_CLK; PC7/I2S_B_MCK; PA6/SPI_A_MISO; PB5/I2S_B_SD/SPI_B_MOSI; SPI_A_MOSI/TIM_E_PWM1; PB3/I2S_B_CK/SPI_B_SCK; PD14/SPI_A_CS/TIM_B_PWM3; PA4/SPI_B_NSS; PD15/TIMER_B_PWM2; PB4/SPI_B_MISO; PG9
part D text: Цепь; Конт.; VDDA; PG12; AGND; PA8/TIMER_A_PWM1; GND; PE11/TIMER_A_PWM2; ADC_A_IN; PE14; ADC_B_IN; PE13/TIMER_A_PWM3; ADC_C_IN; PG14; PG6/QSPI_CS; PB6/LPUART1_TX; PB2/QSPI_CLK; PB7/LPUART1_RX; PE8/TIMER_A_PWM1N; PD13/QSPI_BK1_IO3; PE7/TIMER_A_ETR; PD12/QSPI_BK1_IO1; PD11/QSPI_BK1_IO0; PE10/TIMER_A_PWM2N; PE2/QSPI_BK1_IO2; PE12/TIMER_A_PWM3N; PE6/TIMER_A_BKIN2; PA0/TIMER_C_PWM1; PE15/TIMER_A_BKIN1; PB0/TIMER_D_PWM1; PB10/TIMER_C_PWM2; PE0/TIMER_B_ETR; PB11/TIMER_C_PWM3

## SW
designator SW?, comment KLS7-SS03-12D02-EG-3.0
footprint switch
pins: 1, 2, 3

## SWITCH_2_GROUP
designator SW?  (value not drawn)
footprint B1561(SS10)
footprint SS-22D13
pins: 1, 2, 3, 4, 5, 6

## Tast
designator XP?, comment AK-1604-A-WWB
footprint AK-1604-N-WWB
pins: 1, 2, 3, 4, 5, 6, 7, 8
text: Цепь; Конт.; Столбец 1; Столбец 2; Столбец 3; Столбец 4; Строка 1; Строка 2; Строка 3; Строка 4

## TDA2822D
designator D?
Manufacturer: ST Microelectroncs; Case: SO-8; PartNumber: TDA2822D
footprint SO-8 (SOP, 8-Leads, Body 4,90x3,90mm, Pitch 1,27mm, IPC Medium Density)
pins: 1 OUT1, 2 VCC, 3 OUT2, 4 GND, 5 IN2-, 6 IN2+, 7 IN1+, 8 IN1-

## TO-1608BC
designator VD?
LED SMD 1608
footprint TO-1608BC (LED)
pins: +, -

## TO-1608BC-BF
designator VD?
LED SMD 1608 247мКд, 120°, 468нМ (Blue)
footprint TO-1608BC-BF (LED SMD 1608 247мКд, 120°, 468нМ (Blue))
pins: +, -

## TO-1608BC-MRE
designator VD?
LED SMD 1608 112мКд, 120°, 630нМ (Ultra Bright Red)
footprint TO-1608BC-MRE (LED 112мКд, 120°, 630нМ (Ultra Bright Red))
pins: +, -

## TO-1608BC-MYF
designator VD?
LED SMD 1608 247мКд, 120°, 592нМ (High Bright Yellow)
footprint TO-1608BC-MYF (LED SMD 1608, 247мКд, 120°, 592нМ (High Bright Yellow))
pins: +, -

## TO-1608BC-PG
designator VD?
LED SMD 1608 705мКд, 120°, 525нМ (Pure Green)
footprint TO-1608BC-PG (LED SMD 1608 705мКд, 120°, 525нМ (Pure Green))
pins: +, -

## URB2405LD-20WR3
designator A?, comment 5V/4A
footprint URB2405LD-20WR3 (DC/DC, Vin 9-36V, Vout 5V/4A)
pins: 1 Ctrl, 2 GND, 3 Vin, 4 +Vo, 5 Trim, 6 0V
text: DC/DC

## URB2405LD-20WR3_
designator *
footprint URB2405LD-20WR3 (DC/DC, Vin 9-36V, Vout 5V/4A)
pins: 1 Ctrl, 2 GND, 3 Vin, 4 +Vo, 5 Trim, 6 0V
text: DC/DC

## USB-C
designator XS?  (value not drawn)
PartNumber: AUC03-0106-F41-S-1
footprint USB-C
pins: 1, 2, 3, 4, 5, 6
text: Цепь; Конт.; GND; VCC; CC1; CC2

## VD
designator VD?
Case: *; Voltage: *; PartNumber: *; Manufacturer: *; Current: *
footprint GNL-3012GD
footprint GNL-3012HD
footprint GNL-3012YD
footprint GNL-3014BC
pins: 1 A, 2 C

## VD RGB
designator VD?, comment BL-L515RGBC-CA
Manufacturer: Betlux; PartNumber: BL-L515RGBC-CA
footprint BL-l515
pins: 1, 2, 3, 4
text: R; G; B

## VD_sh
designator VD?  (value not drawn)
PartNumber: *
footprint SOD323F (SODFL, 2-Leads, Body 1.25x2.50mm, IPC Medium Density)
pins: 1 C, 2 A

## WE742792651
designator L?, comment value 100 MHz - 600 Ohm  (hidden comment: 100 MHz - 600 Ohm (0603) Wurth Electronics)
TB160808 U601; PartNumber: 742792651; Company: Wurth Electronics; Package: 0603
footprint 742792651
pins: 1, 2

## XP_LCD
designator XS?, comment MSP3521
footprint LCD
pins: 1, 2, 3, 4, 5, 6, 7, 8, 9
text: Цепь; Конт.; VCC; GND; CS; RESET; DC/RS; SDI (MOSI); SCK; LED; SDO (MISO)

## XP_LCD_TOUCH
designator XP?  14: T_IRQ  13: T_DO  12: T_DIN  11: T_CS  10: T_CLK  9: SDO(MISO)  8: LED  7: SCK  6: SDI(MOSI)  5: DC/RS  4: RESET  3: CS  2: GND  1: VCC
pins: 1, 2, 3, 4, 5, 6, 7, 8, 9, 10, 11, 12, 13, 14
text: Цепь; Конт.